# Altium footprint library PCB_proj_module_1_1.PcbLib: 58 footprints (part 3 of 4)
Each footprint in its own frame and in the unit in brackets; x right, y up, seen from the top. Pads: shape width x height; smd on the part's side, far side on the other; paste and mask are expansions set on the pad; w line width, h text height; cw(c..) or ccw(c..) is an arc to the next point about the centre after c.
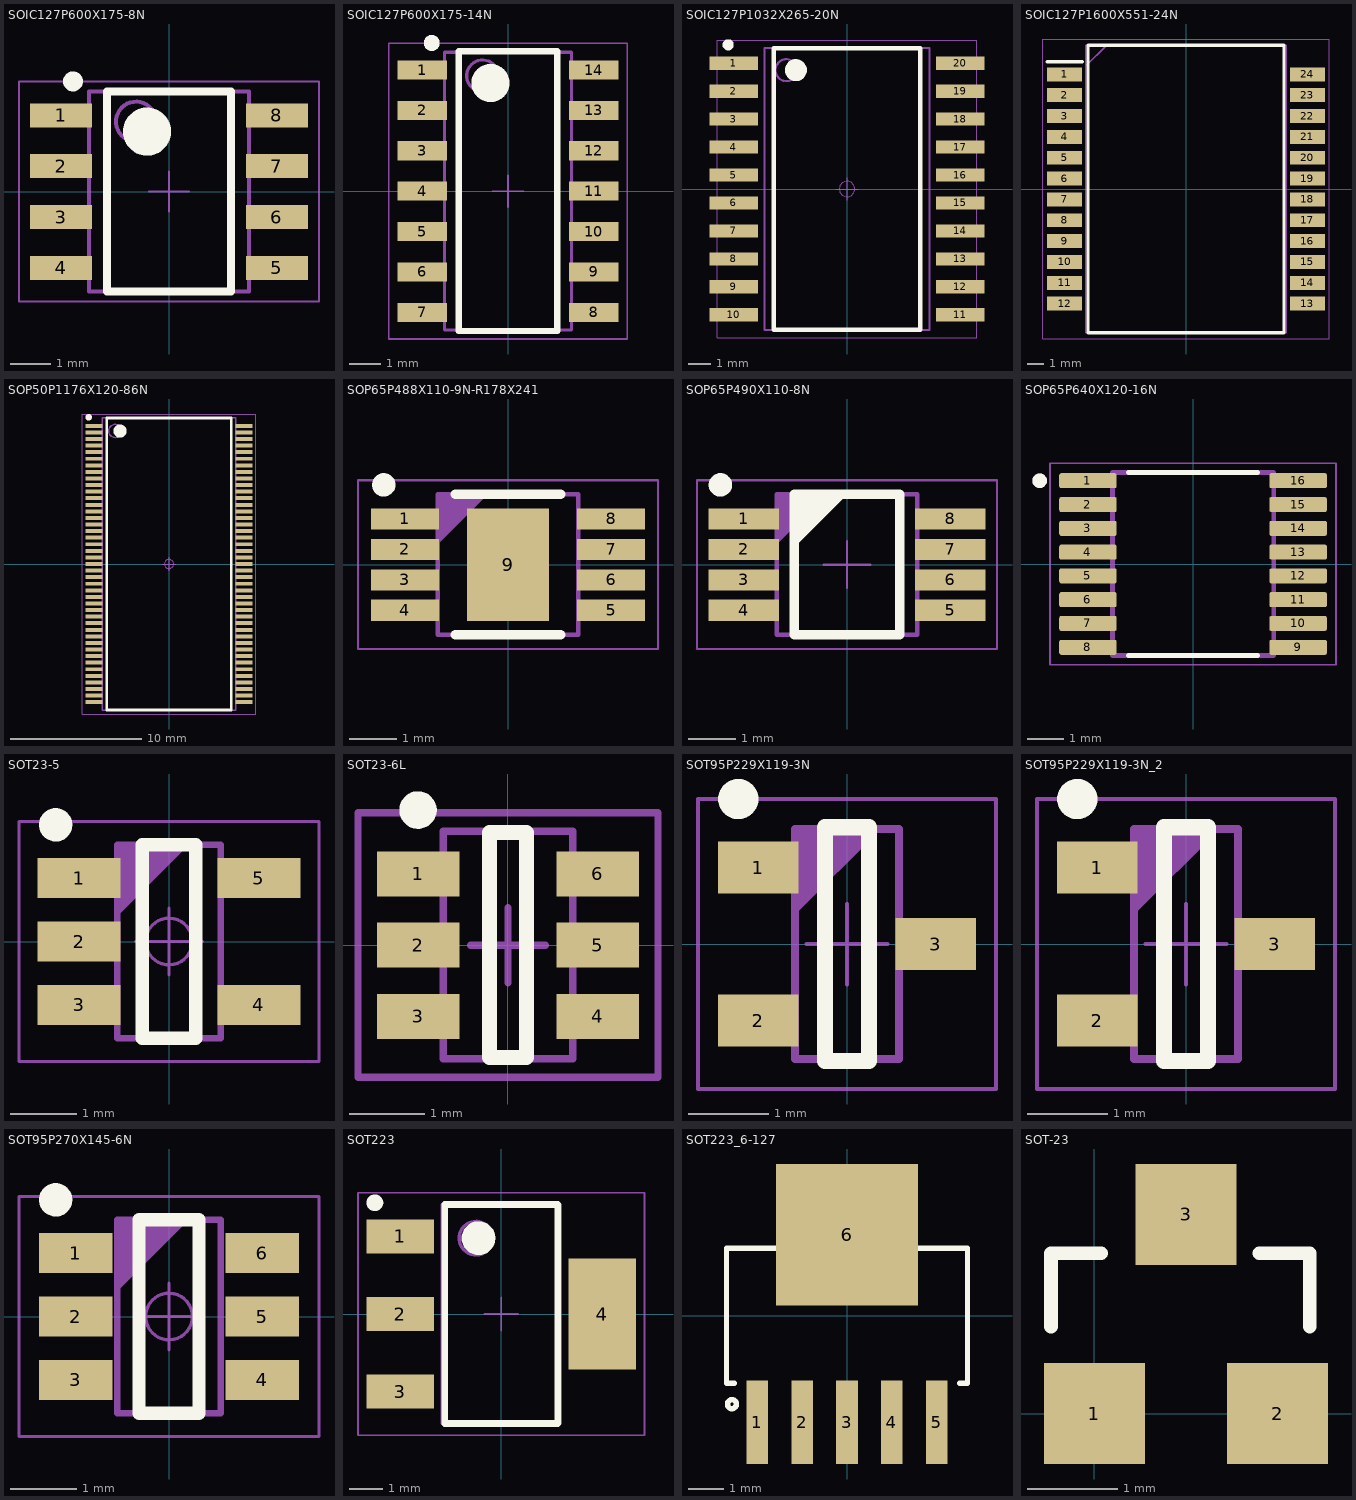
[diagram p2: the footprints below, top view; thin cyan lines are the x and y axes]

## SOIC127P600X175-8N [mm]
pads (8):
  rect 1.55x0.6 smd: 1(-2.7,1.905) 2(-2.7,0.635) 3(-2.7,-0.635) 4(-2.7,-1.905) 5(2.7,-1.905) 6(2.7,-0.635) 7(2.7,0.635) 8(2.7,1.905)
Top Overlay:
  circle w0.6: c-0.55,1.5 r0.3
  circle w0.25: c-2.4,2.755 r0.125
  lines w0.2: -1.55,-2.5 1.55,-2.5 1.55,2.5 -1.55,2.5 -1.55,-2.5
Mechanical 14:
  circle w0.1: c-0.825,1.75 r0.5
  lines w0.1: -2,-2.5 2,-2.5 2,2.5 -2,2.5 -2,-2.5
Mechanical 15:
  lines w0.05: -0.5,0 0.5,0 ; 0,-0.5 0,0.5 ; -3.75,-2.75 3.75,-2.75 3.75,2.75 -3.75,2.75 -3.75,-2.75
3D body "SOIC127P600X175-8N.stp": height 1.75, standoff 0, extent -3.1,-2.5 3.1,2.5

## SOIC127P600X175-14N [mm]
pads (14):
  rect 1.55x0.6 smd: 1(-2.7,3.81) 2(-2.7,2.54) 3(-2.7,1.27) 4(-2.7,0) 5(-2.7,-1.27) 6(-2.7,-2.54) 7(-2.7,-3.81) 8(2.7,-3.81) 9(2.7,-2.54) 10(2.7,-1.27) 11(2.7,0) 12(2.7,1.27) 13(2.7,2.54) 14(2.7,3.81)
Top Overlay:
  circle w0.6: c-0.55,3.4 r0.3
  circle w0.25: c-2.4,4.66 r0.125
  lines w0.2: -1.55,-4.4 1.55,-4.4 1.55,4.4 -1.55,4.4 -1.55,-4.4
Mechanical 14:
  circle w0.1: c-0.8,3.625 r0.5
  lines w0.1: -2,-4.37 2,-4.37 2,4.37 -2,4.37 -2,-4.37
Mechanical 15:
  lines w0.05: -0.5,0 0.5,0 ; 0,-0.5 0,0.5 ; -3.75,-4.65 3.75,-4.65 3.75,4.65 -3.75,4.65 -3.75,-4.65
3D body "SOIC127P600X175-14N.stp": height 1.75, standoff 0, extent -3.1,-4.375 3.1,4.375

## SOIC127P1032X265-20N [mm]
pads (20):
  rect 2.2x0.6 smd: 1(-5.15,5.715) 2(-5.15,4.445) 3(-5.15,3.175) 4(-5.15,1.905) 5(-5.15,0.635) 6(-5.15,-0.635) 7(-5.15,-1.905) 8(-5.15,-3.175) 9(-5.15,-4.445) 10(-5.15,-5.715) 11(5.15,-5.715) 12(5.15,-4.445) 13(5.15,-3.175) 14(5.15,-1.905) 15(5.15,-0.635) 16(5.15,0.635) 17(5.15,1.905) 18(5.15,3.175) 19(5.15,4.445) 20(5.15,5.715)
Top Overlay:
  circle w0.25: c-5.4,6.55 r0.125
  circle w0.5: c-2.325,5.4 r0.25
  lines w0.2: -3.325,-6.4 -3.325,6.4 3.325,6.4 3.325,-6.4 -3.325,-6.4
Mechanical 14:
  circle w0.1: c-2.75,5.4 r0.5
  lines w0.1: -3.75,-6.4 -3.75,6.4 3.75,6.4 3.75,-6.4 -3.75,-6.4
Mechanical 15:
  circle w0.05: c0,0 r0.35
  lines w0.05: -0.5,0 0.5,0 ; 0,-0.5 0,0.5 ; -5.9,-6.75 -5.9,6.75 5.9,6.75 5.9,-6.75 -5.9,-6.75
3D body "SOIC127P1032X265-20N.stp": height 1.68, standoff 0, extent -5.18,-6.5 5.18,6.5

## SOIC127P1600X551-24N [mm]
height 1
pads (24):
  rect 2.15x0.85 smd: 1(-7.4,6.985) 2(-7.4,5.715) 3(-7.4,4.445) 4(-7.4,3.175) 5(-7.4,1.905) 6(-7.4,0.635) 7(-7.4,-0.635) 8(-7.4,-1.905) 9(-7.4,-3.175) 10(-7.4,-4.445) 11(-7.4,-5.715) 12(-7.4,-6.985) 13(7.4,-6.985) 14(7.4,-5.715) 15(7.4,-4.445) 16(7.4,-3.175) 17(7.4,-1.905) 18(7.4,-0.635) 19(7.4,0.635) 20(7.4,1.905) 21(7.4,3.175) 22(7.4,4.445) 23(7.4,5.715) 24(7.4,6.985)
Top Overlay:
  lines w0.2: -8.475,7.76 -6.325,7.76 ; -5.975,-8.765 5.975,-8.765 5.975,8.765 -5.975,8.765 -5.975,-8.765
Mechanical 13:
  lines w0.05: -8.725,-9.14 8.725,-9.14 8.725,9.14 -8.725,9.14 -8.725,-9.14
  lines w0.1: -6.1,7.495 -4.83,8.765 ; -6.1,-8.765 6.1,-8.765 6.1,8.765 -6.1,8.765 -6.1,-8.765
3D body "H5007NL--3DModel-STEP-56544.STEP": height 5.71, standoff 0, extent -8.001,-8.763 8.001,8.763

## SOP50P1176X120-86N [mm]
pads (86):
  rect 1.3x0.3 smd: 1(-5.7,10.5) 2(-5.7,10) 3(-5.7,9.5) 4(-5.7,9) 5(-5.7,8.5) 6(-5.7,8) 7(-5.7,7.5) 8(-5.7,7) 9(-5.7,6.5) 10(-5.7,6) 11(-5.7,5.5) 12(-5.7,5) 13(-5.7,4.5) 14(-5.7,4) 15(-5.7,3.5) 16(-5.7,3) 17(-5.7,2.5) 18(-5.7,2) 19(-5.7,1.5) 20(-5.7,1) 21(-5.7,0.5) 22(-5.7,0) 23(-5.7,-0.5) 24(-5.7,-1) 25(-5.7,-1.5) 26(-5.7,-2) 27(-5.7,-2.5) 28(-5.7,-3) 29(-5.7,-3.5) 30(-5.7,-4) 31(-5.7,-4.5) 32(-5.7,-5) 33(-5.7,-5.5) 34(-5.7,-6) 35(-5.7,-6.5) 36(-5.7,-7) 37(-5.7,-7.5) 38(-5.7,-8) 39(-5.7,-8.5) 40(-5.7,-9) 41(-5.7,-9.5) 42(-5.7,-10) 43(-5.7,-10.5) 44(5.7,-10.5) 45(5.7,-10) 46(5.7,-9.5) 47(5.7,-9) 48(5.7,-8.5) 49(5.7,-8) 50(5.7,-7.5) 51(5.7,-7) 52(5.7,-6.5) 53(5.7,-6) 54(5.7,-5.5) 55(5.7,-5) 56(5.7,-4.5) 57(5.7,-4) 58(5.7,-3.5) 59(5.7,-3) 60(5.7,-2.5) 61(5.7,-2) 62(5.7,-1.5) 63(5.7,-1) 64(5.7,-0.5) 65(5.7,0) 66(5.7,0.5) 67(5.7,1) 68(5.7,1.5) 69(5.7,2) 70(5.7,2.5) 71(5.7,3) 72(5.7,3.5) 73(5.7,4) 74(5.7,4.5) 75(5.7,5) 76(5.7,5.5) 77(5.7,6) 78(5.7,6.5) 79(5.7,7) 80(5.7,7.5) 81(5.7,8) 82(5.7,8.5) 83(5.7,9) 84(5.7,9.5) 85(5.7,10) 86(5.7,10.5)
Top Overlay:
  circle w0.5: c-3.725,10.1 r0.25
  circle w0.25: c-6.1,11.15 r0.125
  lines w0.2: -4.725,-11.1 4.725,-11.1 4.725,11.1 -4.725,11.1 -4.725,-11.1
Mechanical 14:
  circle w0.1: c-4.08,10.11 r0.5
  lines w0.1: -5.08,-11.11 5.08,-11.11 5.08,11.11 -5.08,11.11 -5.08,-11.11
Mechanical 15:
  circle w0.05: c0,0 r0.35
  lines w0.05: -0.5,0 0.5,0 ; 0,-0.5 0,0.5 ; -6.6,-11.4 6.6,-11.4 6.6,11.4 -6.6,11.4 -6.6,-11.4
3D body "SOP50P1176X120-86N.stp": height 1.2, standoff 0, extent -5.97,-11.15 5.97,11.15

## SOP65P488X110-9N-R178X241 [mm]
pads (9):
  rect 1.45x0.45 smd: 1(-2.2,0.975) 2(-2.2,0.325) 3(-2.2,-0.325) 4(-2.2,-0.975) 5(2.2,-0.975) 6(2.2,-0.325) 7(2.2,0.325) 8(2.2,0.975)
  rect 1.75x2.4 smd: 9(0,0)
Top Overlay:
  circle w0.25: c-2.65,1.7 r0.125
  lines w0.2: -1.125,-1.5 1.125,-1.5 ; -1.125,1.5 1.125,1.5
Mechanical 14:
  lines w0.1: -1.5,0.5 -0.5,1.5 ; -1.5,0.6 -0.6,1.5 ; -1.5,0.7 -0.7,1.5 ; -1.5,0.8 -0.8,1.5 ; -1.5,0.9 -0.9,1.5 ; -1.5,1 -1,1.5 ; -1.5,1.1 -1.1,1.5 ; -1.5,1.2 -1.2,1.5 ; -1.5,1.3 -1.3,1.5 ; -1.5,1.4 -1.4,1.5 ; -1.5,-1.5 -1.5,1.5 1.5,1.5 1.5,-1.5 -1.5,-1.5
Mechanical 15:
  lines w0.05: -0.5,0 0.5,0 ; 0,-0.5 0,0.5 ; -3.2,-1.8 3.2,-1.8 3.2,1.8 -3.2,1.8 -3.2,-1.8
3D body "SOP65P488X110-9N-R178X241.stp": height 1.1, standoff 0, extent -2.45,-1.55 2.45,1.55

## SOP65P490X110-8N [mm]
pads (8):
  rect 1.5x0.45 smd: 1(-2.2,0.975) 2(-2.2,0.325) 3(-2.2,-0.325) 4(-2.2,-0.975) 5(2.2,-0.975) 6(2.2,-0.325) 7(2.2,0.325) 8(2.2,0.975)
Top Overlay:
  circle w0.25: c-2.7,1.7 r0.125
  lines w0.2: -1.125,0.5 -0.125,1.5 ; -1.125,0.7 -0.325,1.5 ; -1.125,0.9 -0.525,1.5 ; -1.125,1.1 -0.725,1.5 ; -1.125,1.3 -0.925,1.5 ; -1.125,-1.5 1.125,-1.5 1.125,1.5 -1.125,1.5 -1.125,-1.5
Mechanical 14:
  lines w0.1: -1.5,0.5 -0.5,1.5 ; -1.5,0.6 -0.6,1.5 ; -1.5,0.7 -0.7,1.5 ; -1.5,0.8 -0.8,1.5 ; -1.5,0.9 -0.9,1.5 ; -1.5,1 -1,1.5 ; -1.5,1.1 -1.1,1.5 ; -1.5,1.2 -1.2,1.5 ; -1.5,1.3 -1.3,1.5 ; -1.5,1.4 -1.4,1.5 ; -1.5,-1.5 1.5,-1.5 1.5,1.5 -1.5,1.5 -1.5,-1.5
Mechanical 15:
  lines w0.05: -0.5,0 0.5,0 ; 0,-0.5 0,0.5 ; -3.2,-1.8 -3.2,1.8 3.2,1.8 3.2,-1.8 -3.2,-1.8
3D body "SOP65P490X110-8N.stp": height 1.1, standoff 0, extent -2.45,-1.55 2.45,1.55

## SOP65P640X120-16N [mm]
pads (16):
  rrect25% 1.57x0.41 smd: 1(-2.87,2.275) 2(-2.87,1.625) 3(-2.87,0.975) 4(-2.87,0.325) 5(-2.87,-0.325) 6(-2.87,-0.975) 7(-2.87,-1.625) 8(-2.87,-2.275) 9(2.87,-2.275) 10(2.87,-1.625) 11(2.87,-0.975) 12(2.87,-0.325) 13(2.87,0.325) 14(2.87,0.975) 15(2.87,1.625) 16(2.87,2.275)
Top Overlay:
  circle w0.2: c-4.19,2.275 r0.1
  lines w0.127: -1.765,-2.5 1.765,-2.5 ; -1.765,2.5 1.765,2.5
Mechanical 13:
  circle w0.2: c-4.19,2.275 r0.1
  lines w0.127: -2.2,-2.5 2.2,-2.5 2.2,2.5 -2.2,2.5 -2.2,-2.5
Mechanical 15:
  lines w0.05: -3.905,-2.75 3.905,-2.75 3.905,2.75 -3.905,2.75 -3.905,-2.75
3D body "step_temp.STEP": height 1.2, standoff 0, extent -3.2,-2.5 3.2,2.5

## SOT23-5 [mm]
pads (5):
  rect 1.25x0.6 smd: 1(-1.35,0.95) 2(-1.35,0) 3(-1.35,-0.95) 4(1.35,-0.95) 5(1.35,0.95)
Top Overlay:
  circle w0.25: c-1.7,1.75 r0.125
  lines w0.2: -0.4,-1.45 -0.4,1.45 0.4,1.45 0.4,-1.45 -0.4,-1.45
Mechanical 14:
  lines w0.1: -0.775,0.45 0.225,1.45 ; -0.775,0.55 0.125,1.45 ; -0.775,0.65 0.025,1.45 ; -0.775,0.75 -0.075,1.45 ; -0.775,0.85 -0.175,1.45 ; -0.775,0.95 -0.275,1.45 ; -0.775,1.05 -0.375,1.45 ; -0.775,1.15 -0.475,1.45 ; -0.775,1.25 -0.575,1.45 ; -0.775,1.35 -0.675,1.45 ; -0.775,-1.45 -0.775,1.45 0.775,1.45 0.775,-1.45 -0.775,-1.45
Mechanical 15:
  circle w0.05: c0,0 r0.35
  lines w0.05: -0.5,0 0.5,0 ; 0,-0.5 0,0.5 ; -2.25,-1.8 -2.25,1.8 2.25,1.8 2.25,-1.8 -2.25,-1.8
3D body "SOT95P270X145-5N.stp": height 1.45, standoff 0.01, extent -1.351,-1.45 1.351,1.45

## SOT23-6L [mm]
pads (6):
  rect 1.1x0.6 smd: 1(-1.2,0.95) 2(-1.2,0) 3(-1.2,-0.95) 4(1.2,-0.95) 5(1.2,0) 6(1.2,0.95)
Top Overlay:
  circle w0.25: c-1.2,1.8 r0.125
  lines w0.2: -0.25,-1.5 0.25,-1.5 0.25,1.5 -0.25,1.5 -0.25,-1.5
Mechanical 13:
  lines w0.1: -0.865,-1.515 -0.865,1.515 0.865,1.515 0.865,-1.515 -0.865,-1.515
Mechanical 15:
  lines w0.1: -0.5,0 0.5,0 ; 0,-0.5 0,0.5 ; -2,-1.763 -2,1.763 2,1.763 2,-1.763 -2,-1.763
3D body: height 1.25, standoff 0.05, extent -0.865,-1.515 0.865,1.515

## SOT95P229X119-3N [mm]
pads (3):
  rect 1x0.65 smd: 1(-1.1,0.95) 2(-1.1,-0.95) 3(1.1,0)
Top Overlay:
  circle w0.25: c-1.35,1.8 r0.125
  lines w0.2: -0.275,-1.45 -0.275,1.45 0.275,1.45 0.275,-1.45 -0.275,-1.45
Mechanical 14:
  lines w0.1: -0.648,0.429 0.352,1.429 ; -0.648,0.529 0.252,1.429 ; -0.648,0.629 0.152,1.429 ; -0.648,0.729 0.052,1.429 ; -0.648,0.829 -0.048,1.429 ; -0.648,0.929 -0.148,1.429 ; -0.648,1.029 -0.248,1.429 ; -0.648,1.129 -0.348,1.429 ; -0.648,1.229 -0.448,1.429 ; -0.648,1.329 -0.548,1.429 ; -0.648,-1.429 0.648,-1.429 0.648,1.429 -0.648,1.429 -0.648,-1.429
Mechanical 15:
  lines w0.05: -0.5,0 0.5,0 ; 0,-0.5 0,0.5 ; -1.85,-1.8 1.85,-1.8 1.85,1.8 -1.85,1.8 -1.85,-1.8
3D body "SOT95P229X119-3N.stp": height 1.19, standoff 0, extent -1.25,-1.5 1.25,1.5

## SOT95P229X119-3N_2 [mm]
pads (3):
  rect 1x0.65 smd: 1(-1.1,0.95) 2(-1.1,-0.95) 3(1.1,0)
Top Overlay:
  circle w0.25: c-1.35,1.8 r0.125
  lines w0.2: -0.275,-1.45 0.275,-1.45 0.275,1.45 -0.275,1.45 -0.275,-1.45
Mechanical 14:
  lines w0.1: -0.648,0.429 0.352,1.429 ; -0.648,0.529 0.252,1.429 ; -0.648,0.629 0.152,1.429 ; -0.648,0.729 0.052,1.429 ; -0.648,0.829 -0.048,1.429 ; -0.648,0.929 -0.148,1.429 ; -0.648,1.029 -0.248,1.429 ; -0.648,1.129 -0.348,1.429 ; -0.648,1.229 -0.448,1.429 ; -0.648,1.329 -0.548,1.429 ; -0.648,-1.429 -0.648,1.429 0.648,1.429 0.648,-1.429 -0.648,-1.429
Mechanical 15:
  lines w0.05: -0.5,0 0.5,0 ; 0,-0.5 0,0.5 ; -1.85,-1.8 -1.85,1.8 1.85,1.8 1.85,-1.8 -1.85,-1.8
3D body "SOT95P229X119-3N.stp": height 1.19, standoff 0, extent -1.25,-1.5 1.25,1.5

## SOT95P270X145-6N [mm]
pads (6):
  rect 1.1x0.6 smd: 1(-1.4,0.95) 2(-1.4,0) 3(-1.4,-0.95) 4(1.4,-0.95) 5(1.4,0) 6(1.4,0.95)
Top Overlay:
  circle w0.25: c-1.7,1.75 r0.125
  lines w0.2: -0.45,-1.45 0.45,-1.45 0.45,1.45 -0.45,1.45 -0.45,-1.45
Mechanical 14:
  lines w0.1: -0.775,0.45 0.225,1.45 ; -0.775,0.55 0.125,1.45 ; -0.775,0.65 0.025,1.45 ; -0.775,0.75 -0.075,1.45 ; -0.775,0.85 -0.175,1.45 ; -0.775,0.95 -0.275,1.45 ; -0.775,1.05 -0.375,1.45 ; -0.775,1.15 -0.475,1.45 ; -0.775,1.25 -0.575,1.45 ; -0.775,1.35 -0.675,1.45 ; -0.775,-1.45 0.775,-1.45 0.775,1.45 -0.775,1.45 -0.775,-1.45
Mechanical 15:
  circle w0.05: c0,0 r0.35
  lines w0.05: -0.5,0 0.5,0 ; 0,-0.5 0,0.5 ; -2.25,-1.8 2.25,-1.8 2.25,1.8 -2.25,1.8 -2.25,-1.8
3D body "SOT95P270X145-6N.stp": height 1.45, standoff 0.01, extent -1.351,-1.45 1.351,1.45

## SOT223 [mm]
pads (4):
  rect 2x1 smd: 1(-3,2.3) 2(-3,0) 3(-3,-2.3)
  rect 2x3.3 smd: 4(3,0)
Top Overlay:
  circle w0.25: c-3.75,3.3 r0.125
  circle w0.5: c-0.675,2.25 r0.25
  lines w0.2: -1.675,-3.25 -1.675,3.25 1.675,3.25 1.675,-3.25 -1.675,-3.25
Mechanical 14:
  circle w0.1: c-0.75,2.25 r0.5
  lines w0.1: -1.75,-3.25 -1.75,3.25 1.75,3.25 1.75,-3.25 -1.75,-3.25
Mechanical 15:
  lines w0.05: -0.5,0 0.5,0 ; 0,-0.5 0,0.5 ; -4.25,-3.6 -4.25,3.6 4.25,3.6 4.25,-3.6 -4.25,-3.6
3D body "SOT230P700X175-4N.stp": height 1.75, standoff 0, extent -3.649,-3.35 3.649,3.35

## SOT223_6-127 [mil]
pads (6):
  rect 24x93 smd paste+0 mask+0: 1(-100,-118.5) 2(-50,-118.5) 3(0,-118.5) 4(50,-118.5) 5(100,-118.5)
  rect 157.48x157.48 smd: 6(0,90)
Top Overlay:
  circle w6: c-127.95,-98.43 r5
  lines w6: -125.1,-75 -134,-75 -134,75 -75.1,75 ; 75.1,75 134,75 134,-75 125.1,-75
Top Paste:
  region: 62,72 62,165 -62,165 -62,72
Mechanical 13:
  lines w1: -110,-143 -90,-143 ; -60,-143 -40,-143 ; -10,-143 10,-143 ; 40,-143 60,-143 ; 90,-143 110,-143
3D body: height 10, standoff 0, extent 0,0 10,10
3D body "DCQ6_TEX-M.step": height 71.1, standoff 0, extent -129.01,-142.99 129.02,143

## SOT-23 [mil]
pads (3):
  rect 44x44 smd: 1(0,0) 2(80,0) 3(40,87)
Top Overlay:
  lines w6: -19,38 -19,70 3,70 ; 72,70 94,70 94,38
3D body "SOT95P240X110-3N.stp": height 43.31, standoff 0.08, extent -21.66,-3.93 96.45,94.5